# Altium schematic symbol library BGA524N6E6327XTSA1.SchLib: 1 symbol
Pins are listed as number, name and electrical type; pins without a type are passive.

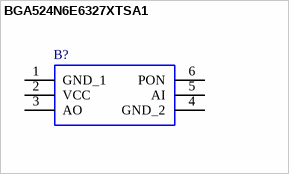
[diagram p0: symbol BGA524N6E6327XTSA1]

## BGA524N6E6327XTSA1
designator B?
INFINEON - BGA524N6E6327XTSA1 - LNA, 19.6DB, 1.55GHZ-1.615GHZ, TSNP-6; Mouser Part Number: 726-A524N6E6327XTSA1; Mouser Price/Stock: https://www.mouser.co.uk/ProductDetail/Infineon-Technologies/BGA524N6E6327XTSA1?qs=dZoB6MK9LKODRML%252BhnhJcg%3D%3D; Manufacturer_Name: Infineon; Manufacturer_Part_Number: BGA524N6E6327XTSA1; Datasheet Link: https://www.infineon.com/dgdl/Infineon-BGA524N6-DS-v03_00-en.pdf?fileId=db3a304344e406b50144e44dfad302b9
footprint BGS12SN6E6327XTSA1
pins: 1 GND_1, 2 VCC, 3 AO, 4 GND_2, 5 AI, 6 PON